# Altium footprint library PCB1.PcbLib: 30 footprints (part 1 of 2)
Each footprint in its own frame and in the unit in brackets; x right, y up, seen from the top. Pads: shape width x height; smd on the part's side, far side on the other; paste and mask are expansions set on the pad; w line width, h text height; cw(c..) or ccw(c..) is an arc to the next point about the centre after c.
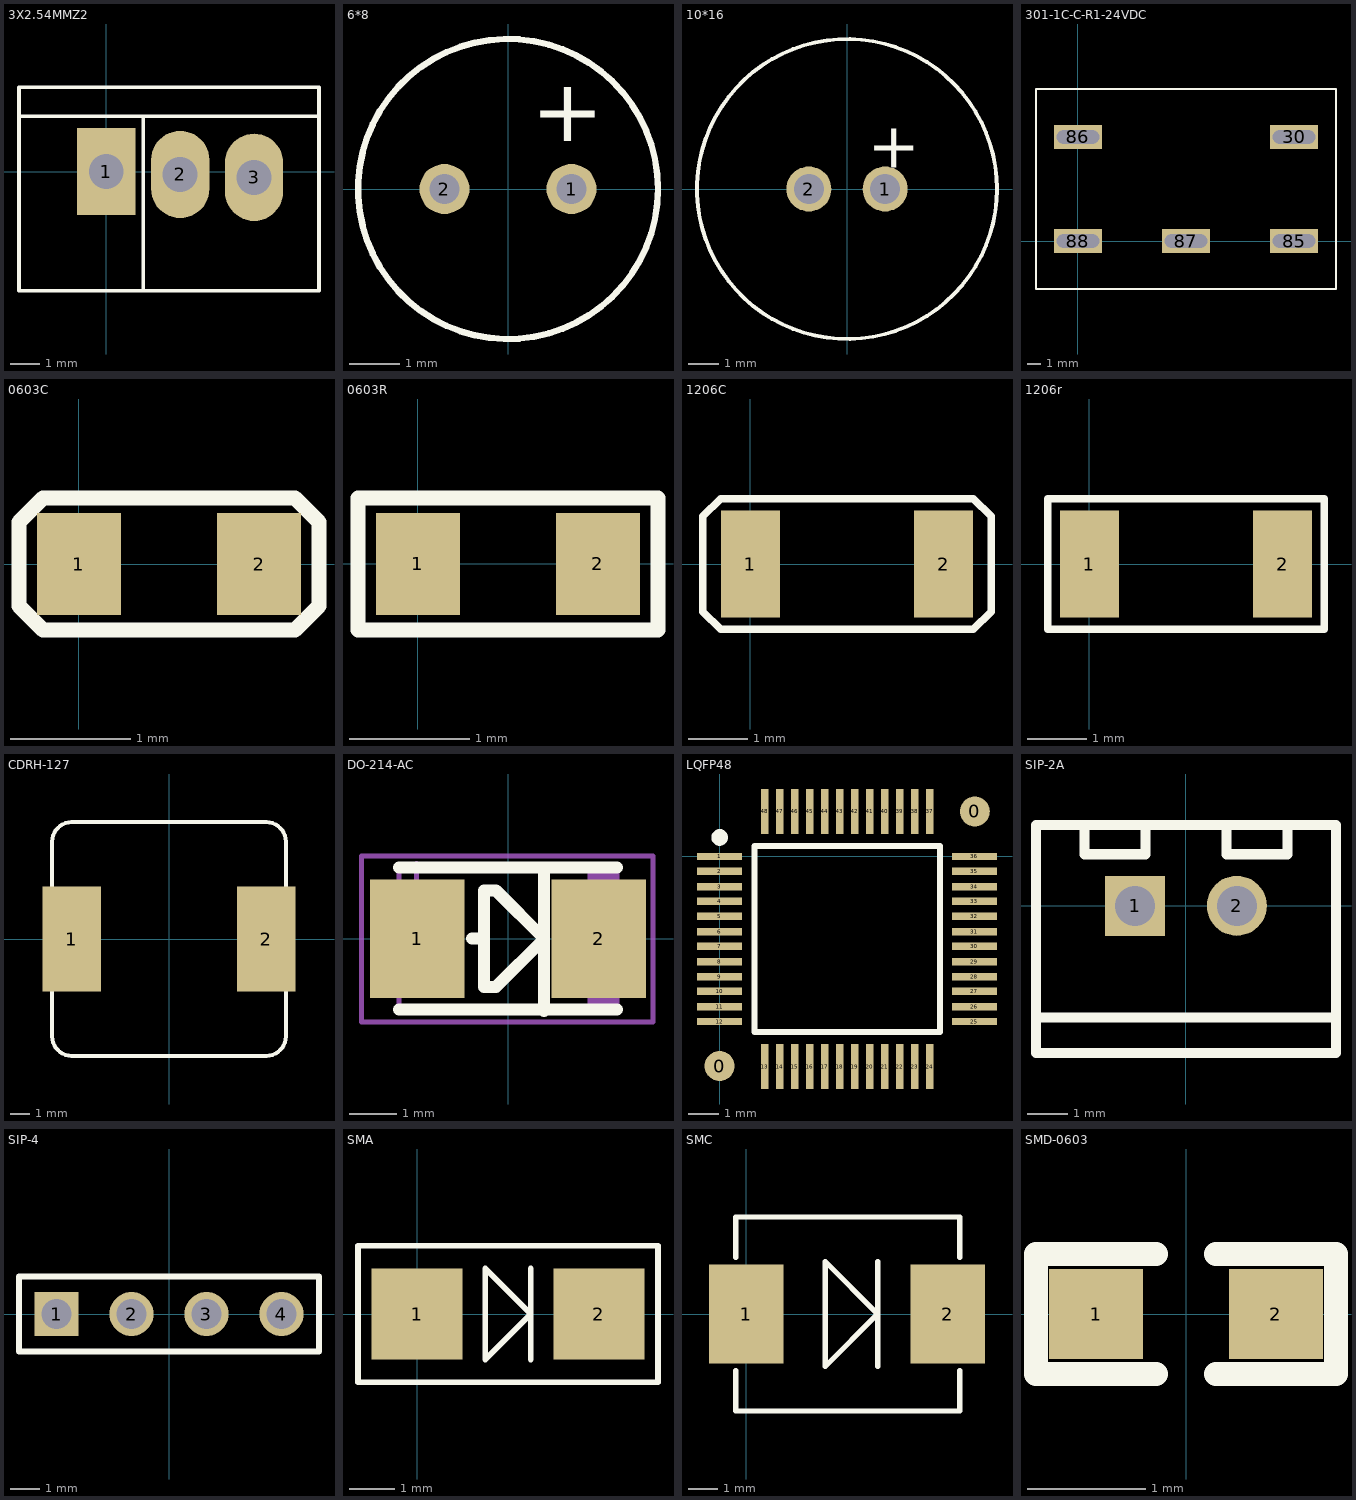
[diagram p0: the footprints below, top view; thin cyan lines are the x and y axes]

## 3X2.54MMZ2 [mm]
pads (3):
  rect 2x3 hole 1.2: 1(0,0)
  oval 2x3 hole 1.2: 2(2.54,-0.1) 3(5.08,-0.2)
Top Overlay:
  lines w0.127: -3,1.9 7.297,1.9 ; 1.27,-4.1 1.27,1.9 ; -3,-4.1 7.311,-4.1 7.311,2.9 -3,2.9 -3,-4.1

## 6*8 [mm]
pads (2):
  round 1 hole 0.6: 1(1.27,0) 2(-1.27,0)
Top Overlay:
  circle w0.127: c0,0 r3
  text "+" at 0.467,0.958 h1.27

## 10*16 [mm]
pads (2):
  round 1.5 hole 1: 1(1.27,0) 2(-1.27,0)
Top Overlay:
  circle w0.127: c0,0 r5
  text "+" at 0.686,0.711 h1.52

## 301-1C-C-R1-24VDC [mm]
pads (5):
  rect 3.6x1.8 hole 1 slot 3.2 at 0 deg: 30(16.2,7.8) 85(16.2,0) 86(0,7.8) 87(8.1,0) 88(0,0)
Top Overlay:
  lines w0.127: -3.15,-3.6 19.35,-3.6 19.35,11.4 -3.15,11.4 -3.15,-3.6

## 0603C [mm]
pads (2):
  rect 0.7x0.85 smd: 1(0,0) 2(1.5,0)
Top Overlay:
  lines w0.127: -0.5,-0.35 -0.3,-0.55 1.8,-0.55 2,-0.35 2,0.35 1.8,0.55 -0.3,0.55 -0.5,0.35 -0.5,-0.35

## 0603R [mm]
pads (2):
  rect 0.7x0.85 smd: 1(0,0) 2(1.5,0)
Top Overlay:
  lines w0.127: -0.5,-0.55 2,-0.55 2,0.55 -0.5,0.55 -0.5,-0.55

## 1206C [mm]
pads (2):
  rect 1x1.8 smd: 1(0,0) 2(3.25,0)
Top Overlay:
  lines w0.127: -0.8,-0.8 -0.8,0.8 -0.5,1.1 3.75,1.1 4.05,0.8 4.05,-0.8 3.75,-1.1 -0.5,-1.1 -0.8,-0.8

## 1206r [mm]
pads (2):
  rect 1x1.8 smd: 1(0,0) 2(3.25,0)
Top Overlay:
  lines w0.127: -0.7,-1.1 -0.7,1.1 3.95,1.1 3.95,-1.1 -0.7,-1.1

## CDRH-127 [mm]
pads (2):
  rect 3x5.4 smd: 1(-5,0) 2(5,0)
Top Overlay:
  lines w0.2: -6,-5 ccw(c-5,-5) -5,-6 5,-6 ccw(c5,-5) 6,-5 6,5 ccw(c5,5) 5,6 -5,6 ccw(c-5,5) -6,5 -6,-5
3D body: height 8.2, standoff 0, extent -6,-6 6,6

## DO-214-AC [mm]
height 2.65
pads (2):
  rect 2x2.5 smd: 1(-1.915,0) 2(1.915,0)
Top Overlay:
  lines w0.254: -2.3,-1.5 2.3,-1.5 ; -2.3,1.5 2.3,1.5 ; -0.762,0 -0.508,0 ; 0.762,-1.524 0.762,1.473 ; -0.508,-1.016 -0.254,-1.016 0.762,0 -0.254,1.016 -0.508,1.016 -0.508,-1.016
Mechanical 13:
  rectangle: 1.681,-1.475 2.3,1.475
  lines w0.1: -2.3,-1.475 -2.3,1.475 2.3,1.475 2.3,-1.475 -2.3,-1.475
Mechanical 15:
  lines w0.1: -2.43,1.092 -1.43,1.092 ; -1.93,0.592 -1.93,1.592 ; -3.09,-1.758 3.06,-1.758 3.06,1.742 -3.09,1.742 -3.09,-1.758
3D body: height 2.4, standoff 0, extent -2.3,-1.35 2.3,1.35

## LQFP48 [mm]
pads (50):
  round 1 smd: 0(0,-6.985) 0(8.509,1.5)
  rect 1.5x0.25 smd: 1(0,0) 2(0,-0.5) 3(0,-1) 4(0,-1.5) 5(0,-2) 6(0,-2.5) 7(0,-3) 8(0,-3.5) 9(0,-4) 10(0,-4.5) 11(0,-5) 12(0,-5.5) 25(8.495,-5.5) 26(8.495,-5) 27(8.495,-4.5) 28(8.495,-4) 29(8.495,-3.5) 30(8.495,-3) 31(8.495,-2.5) 32(8.495,-2) 33(8.495,-1.5) 34(8.495,-1) 35(8.495,-0.5) 36(8.495,0)
  rect 0.25x1.5 smd: 13(1.5,-7) 14(2,-7) 15(2.5,-7) 16(3,-7) 17(3.5,-7) 18(4,-7) 19(4.5,-7) 20(5,-7) 21(5.5,-7) 22(6,-7) 23(6.5,-7) 24(7,-7) 37(7,1.5) 38(6.5,1.5) 39(6,1.5) 40(5.5,1.5) 41(5,1.5) 42(4.5,1.5) 43(4,1.5) 44(3.5,1.5) 45(3,1.5) 46(2.5,1.5) 47(2,1.5) 48(1.5,1.5)
Top Overlay:
  circle w0.3: c0,0.635 r0.127
  lines w0.2: 1.167,-5.857 7.352,-5.857 7.352,0.357 1.167,0.357 1.167,-5.857

## SIP-2A [mm]
pads (2):
  rect 1.5x1.5 hole 1: 1(-1.27,0)
  round 1.5 hole 1: 2(1.27,0)
Top Overlay:
  lines w0.254: -3.75,-3.681 -3.75,2.019 3.75,2.019 3.75,-3.681 -3.7,-3.681 ; -3.75,-2.794 3.75,-2.794 ; -2.54,1.924 -2.54,1.289 -1.016,1.289 -1.016,1.924 ; 1.016,1.924 1.016,1.289 2.54,1.289 2.54,1.924
3D body: height 7.5, standoff -2.9, extent -3.7,-3.814 3.7,2.286

## SIP-4 [mm]
pads (4):
  rect 1.5x1.5 hole 1: 1(-3.81,0)
  round 1.5 hole 1: 2(-1.27,0) 3(1.27,0) 4(3.81,0)
Top Overlay:
  lines w0.2: -5.08,-1.27 -5.08,1.27 5.08,1.27 5.08,-1.27 -5.08,-1.27

## SMA [mm]
pads (2):
  rect 2x2 smd: 1(0,0) 2(4,0)
Top Overlay:
  lines w0.127: 2.5,-1 2.5,1 ; -1.3,-1.5 5.3,-1.5 5.3,1.5 -1.3,1.5 -1.3,-1.5 ; 1.5,-1 2.5,0 1.5,1 1.5,-1

## SMC [mm]
pads (2):
  rect 2.5x3.3 smd: 1(0,0) 2(6.75,0)
Top Overlay:
  lines w0.178: -0.35,-1.9 -0.35,-3.25 7.15,-3.25 7.15,-1.9 ; -0.35,1.9 -0.35,3.25 7.15,3.25 7.15,1.9 ; 4.4,-1.75 4.4,1.75 ; 2.65,-1.75 2.65,1.75 4.4,0 2.65,-1.75

## SMD-0603 [mil]
pads (2):
  rect 31.5x30 smd: 1(-30,0) 2(30,0)
Top Overlay:
  lines w7.87: -10,-20 -50,-20 -50,20 -10,20 ; 10,-20 50,-20 50,20 10,20
3D body: height 17.72, standoff 0, extent -31.49,-15.74 31.5,15.76